# EAGLE library part XS6-50 (library impellimax-drivers)
Please contact factory for your specific package and pinout needs. www.impellimax.com 603-886-9569
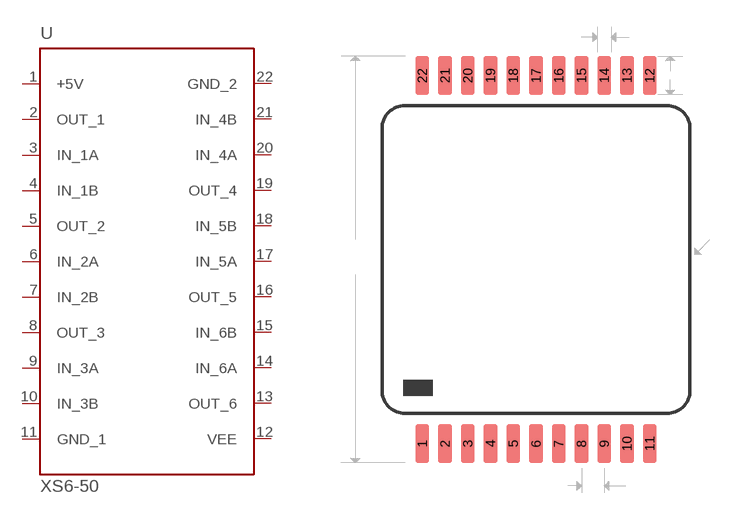
[diagram p21: symbol with the pads of 7408_C130; footprint 7408_C130]

Designator prefix U

## XS6-50  [7408_C130]
1  +5V  in
2  OUT_1  in
3  IN_1A  in
4  IN_1B  in
5  OUT_2  pas
6  IN_2A  in
7  IN_2B  in
8  OUT_3  in
9  IN_3A  in
10  IN_3B  in
11  GND_1  pas
12  VEE  in
13  OUT_6  in
14  IN_6A  in
15  IN_6B  in
16  OUT_5  in
17  IN_5A  in
18  IN_5B  in
19  OUT_4  in
20  IN_4A  in
21  IN_4B  in
22  GND_2  in

## Footprint 7408_C130 (pad centres in mm)
package .645 max square actual lead to lead length .865 max not leadformed, seat package in thru-hole lead width .016, land pattern width .030
smd 0.762 x 2.159: 1 -6.351,-10.289; 2 -5.081,-10.285; 3 -3.811,-10.289; 4 -2.541,-10.285; 5 -1.269,-10.287; 6 0.001,-10.29; 7 1.267,-10.287; 8 2.538,-10.29; 9 3.809,-10.287; 10 5.079,-10.289; 11 6.349,-10.285; 12 6.349,10.289; 13 5.079,10.285; 14 3.808,10.285; 15 2.538,10.285; 16 1.268,10.285; 17 0.001,10.285; 18 -1.272,10.285; 19 -2.542,10.285; 20 -3.812,10.285; 21 -5.081,10.289; 22 -6.351,10.285